# Altium schematic symbol library A04882.SchLib: 1 symbol
Pins are listed as number, name and electrical type; pins without a type are passive.

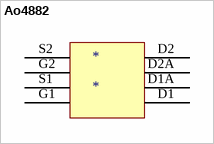
[diagram p0: symbol Ao4882]

## Ao4882
designator *
footprint SOIC127P490X600X175-8N
pins: D1 5, D1A 6, D2 8, D2A 7, G1 4, G2 2, S1 3, S2 1